# EAGLE library part NLSX3018DTR2G (library open_covg)
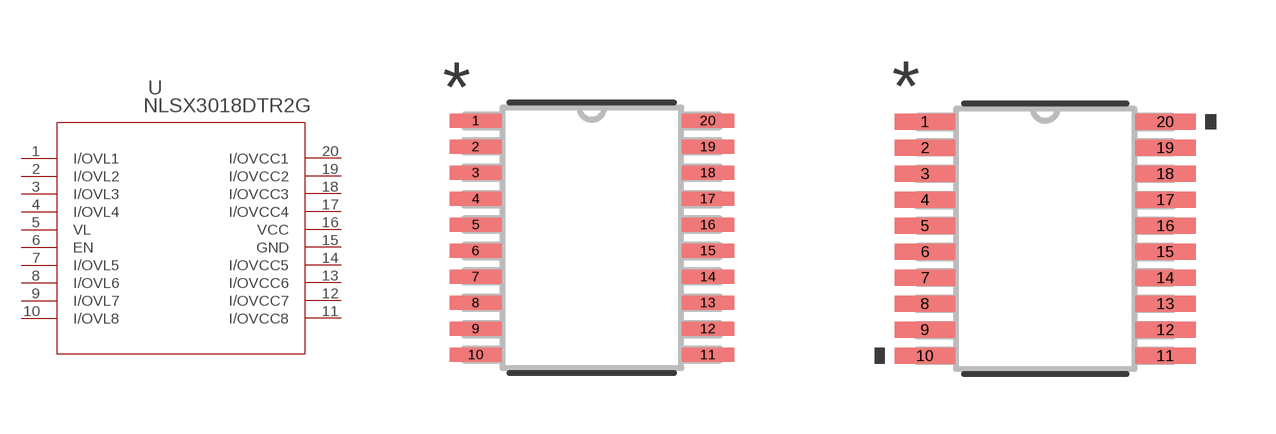
[diagram p10: symbol with the pads of TSSOP20_4P50X6P60_ONS; footprints TSSOP20_4P50X6P60_ONS, TSSOP20_4P50X6P60_ONS-M]

Designator prefix U

## NLSX3018DTR2G (COPYRIGHT: Copyright (C) 2016 Accelerated Designs. All rights reserved; MANUFACTURER_PART_NUMBER: NLSX3018DTR2G; SOURCELIBRARY: ONSemi_2017-12-12_5; VENDOR: ON Semiconductor)  [TSSOP20_4P50X6P60_ONS]
1  I/OVL1
2  I/OVL2
3  I/OVL3
4  I/OVL4
5  VL  in
6  EN  in
7  I/OVL5
8  I/OVL6
9  I/OVL7
10  I/OVL8
11  I/OVCC8
12  I/OVCC7
13  I/OVCC6
14  I/OVCC5
15  GND  pwr
16  VCC  pwr
17  I/OVCC4
18  I/OVCC3
19  I/OVCC2
20  I/OVCC1

## NLSX3018DTR2GTSSOP20_4P50X6P60_ONS-M (COPYRIGHT: Copyright (C) 2016 Accelerated Designs. All rights reserved; MANUFACTURER_PART_NUMBER: NLSX3018DTR2G; SOURCELIBRARY: ONSemi_2017-12-12_5; VENDOR: ON Semiconductor)  [TSSOP20_4P50X6P60_ONS-M]
Pads as for TSSOP20_4P50X6P60_ONS

## NLSX3018DTR2GTSSOP20_4P50X6P60_ONS-L (COPYRIGHT: Copyright (C) 2016 Accelerated Designs. All rights reserved; MANUFACTURER_PART_NUMBER: NLSX3018DTR2G; SOURCELIBRARY: ONSemi_2017-12-12_5; VENDOR: ON Semiconductor)  [TSSOP20_4P50X6P60_ONS-L]
Pads as for TSSOP20_4P50X6P60_ONS

## Footprint TSSOP20_4P50X6P60_ONS (pad centres in mm)
smd 1.308 x 0.356: 1 -2.902,2.925; 2 -2.902,2.275; 3 -2.902,1.625; 4 -2.902,0.975; 5 -2.902,0.325; 6 -2.902,-0.325; 7 -2.902,-0.975; 8 -2.902,-1.625; 9 -2.902,-2.275; 10 -2.902,-2.925; 11 2.902,-2.925; 12 2.902,-2.275; 13 2.902,-1.625; 14 2.902,-0.975; 15 2.902,-0.325; 16 2.902,0.325; 17 2.902,0.975; 18 2.902,1.625; 19 2.902,2.275; 20 2.902,2.925

## Footprint TSSOP20_4P50X6P60_ONS-M (pad centres in mm)
smd 1.511 x 0.406: 1 -3.004,2.925; 2 -3.004,2.275; 3 -3.004,1.625; 4 -3.004,0.975; 5 -3.004,0.325; 6 -3.004,-0.325; 7 -3.004,-0.975; 8 -3.004,-1.625; 9 -3.004,-2.275; 10 -3.004,-2.925; 11 3.004,-2.925; 12 3.004,-2.275; 13 3.004,-1.625; 14 3.004,-0.975; 15 3.004,-0.325; 16 3.004,0.325; 17 3.004,0.975; 18 3.004,1.625; 19 3.004,2.275; 20 3.004,2.925

## Footprint TSSOP20_4P50X6P60_ONS-L (pad centres in mm)
smd 1.105 x 0.305: 1 -2.8,2.925; 2 -2.8,2.275; 3 -2.8,1.625; 4 -2.8,0.975; 5 -2.8,0.325; 6 -2.8,-0.325; 7 -2.8,-0.975; 8 -2.8,-1.625; 9 -2.8,-2.275; 10 -2.8,-2.925; 11 2.8,-2.925; 12 2.8,-2.275; 13 2.8,-1.625; 14 2.8,-0.975; 15 2.8,-0.325; 16 2.8,0.325; 17 2.8,0.975; 18 2.8,1.625; 19 2.8,2.275; 20 2.8,2.925